# Altium footprint library Rotary_POT.PcbLib: 1 footprints
Each footprint in its own frame and in the unit in brackets; x right, y up, seen from the top. Pads: shape width x height; smd on the part's side, far side on the other; paste and mask are expansions set on the pad; w line width, h text height; cw(c..) or ccw(c..) is an arc to the next point about the centre after c.
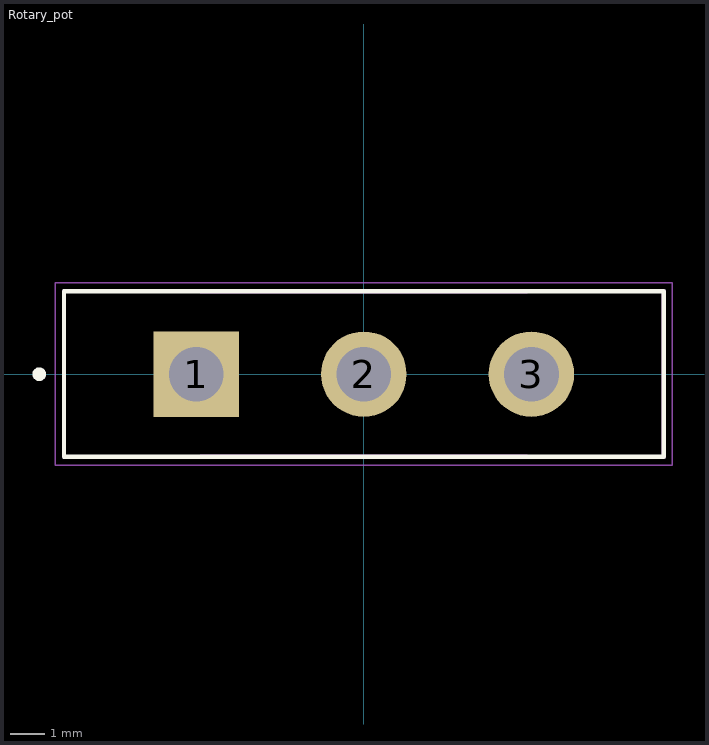
[diagram p0: the footprint, top view; thin cyan lines are the x and y axes]

## Rotary_pot [mm]
pads (3):
  rect 2.5x2.5 hole 1.6: 1(-4.9,0)
  round 2.5 hole 1.6: 2(0,0) 3(4.9,0)
Top Overlay:
  circle w0.2: c-9.487,0 r0.1
  lines w0.127: -8.765,-2.41 8.765,-2.41 8.765,2.42 -8.765,2.42 -8.765,-2.41
Mechanical 13:
  lines w0.127: -8.765,-2.41 -8.765,2.42 ; -4.765,-2.41 4.765,-2.41 ; -4.765,2.42 4.765,2.42 ; 8.765,-2.41 8.765,2.42
Mechanical 15:
  lines w0.05: -9.015,-2.66 -9.015,2.67 9.015,2.67 9.015,-2.66 -9.015,-2.66
3D body "User Library-Potentiometer.STEP": height 21.38, standoff -3.56, extent -8.382,-5.63 8.382,18.5